# EAGLE library part MAX3386E (library Digilent)
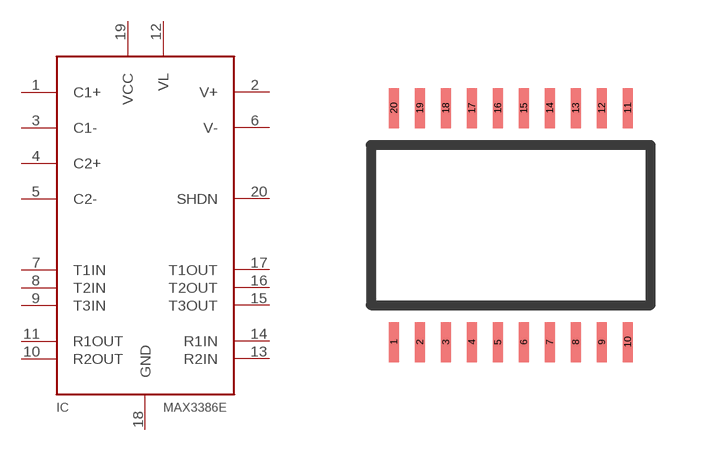
[diagram p25: symbol with the pads of TSSOP20; footprint TSSOP20]

Designator prefix IC

## MAX3386E  [TSSOP20]
1  C1+  pas
2  V+  pas
3  C1-  pas
4  C2+  pas
5  C2-  pas
6  V-  pas
7  T1IN  in
8  T2IN  in
9  T3IN  in
10  R2OUT  out
11  R1OUT  out
12  VL  pwr
13  R2IN  in
14  R1IN  in
15  T3OUT  out
16  T2OUT  out
17  T1OUT  out
18  GND  pwr
19  VCC  pwr
20  SHDN  in

## Footprint TSSOP20 (pad centres in mm)
smd 0.25 x 1: 1 -2.925,-2.925; 2 -2.275,-2.925; 3 -1.625,-2.925; 4 -0.975,-2.925; 5 -0.325,-2.925; 6 0.325,-2.925; 7 0.975,-2.925; 8 1.625,-2.925; 9 2.275,-2.925; 10 2.925,-2.925; 11 2.925,2.925; 12 2.275,2.925; 13 1.625,2.925; 14 0.975,2.925; 15 0.325,2.925; 16 -0.325,2.925; 17 -0.975,2.925; 18 -1.625,2.925; 19 -2.275,2.925; 20 -2.925,2.925